# EAGLE library part HMC735LP5 (library HMC735LP5)
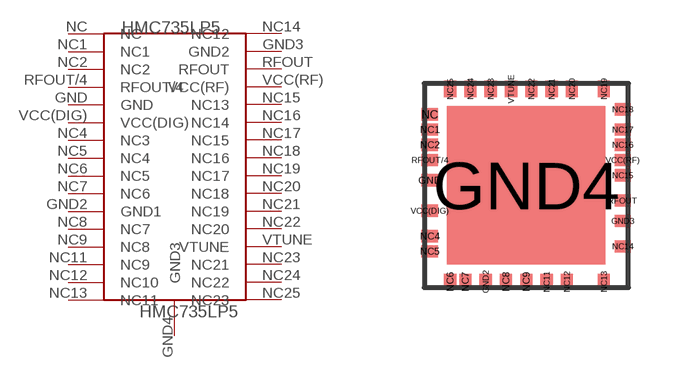
[diagram p0: symbol with the pads of HMC735LP5; footprint HMC735LP5]

Designator prefix -

## HMC735LP5  [HMC735LP5]
GND  GND
GND2  GND1
GND3  GND2
GND4  GND3
NC  NC
NC1  NC1
NC2  NC2
NC4  NC3
NC5  NC4
NC6  NC5
NC7  NC6
NC8  NC7
NC9  NC8
NC11  NC9
NC12  NC10
NC13  NC11
NC14  NC12
NC15  NC13
NC16  NC14
NC17  NC15
NC18  NC16
NC19  NC17
NC20  NC18
NC21  NC19
NC22  NC20
NC23  NC21
NC24  NC22
NC25  NC23
RFOUT  RFOUT
RFOUT/4  RFOUT/4
VCC(DIG)  VCC(DIG)
VCC(RF)  VCC(RF)
VTUNE  VTUNE

## Footprint HMC735LP5 (pad centres in mm)
VCO
smd 0.406 x 0.305: GND -2.413,0.127; GND3 2.413,-0.889; NC -2.413,1.778; NC1 -2.413,1.397; NC2 -2.413,1.016; NC4 -2.413,-1.27; NC5 -2.413,-1.651; NC14 2.413,-1.524; NC15 2.413,0.254; NC16 2.413,1.016; NC17 2.413,1.397; NC18 2.413,1.905; RFOUT 2.413,-0.381; RFOUT/4 -2.413,0.635; VCC(DIG) -2.413,-0.635; VCC(RF) 2.413,0.635
smd 0.305 x 0.406: GND2 -1.016,-2.413; NC6 -1.905,-2.413; NC7 -1.524,-2.413; NC8 -0.508,-2.413; NC9 0,-2.413; NC11 0.508,-2.413; NC12 1.016,-2.413; NC13 1.943,-2.413; NC19 1.943,2.413; NC20 1.143,2.413; NC21 0.635,2.413; NC22 0.127,2.413; NC23 -0.889,2.413; NC24 -1.397,2.413; NC25 -1.905,2.413; VTUNE -0.381,2.413
smd 3.962 x 3.962: GND4 0,0